# Altium schematic symbol library MotherBoard.SchLib: 19 symbols
Pins are listed as number, name and electrical type; pins without a type are passive.

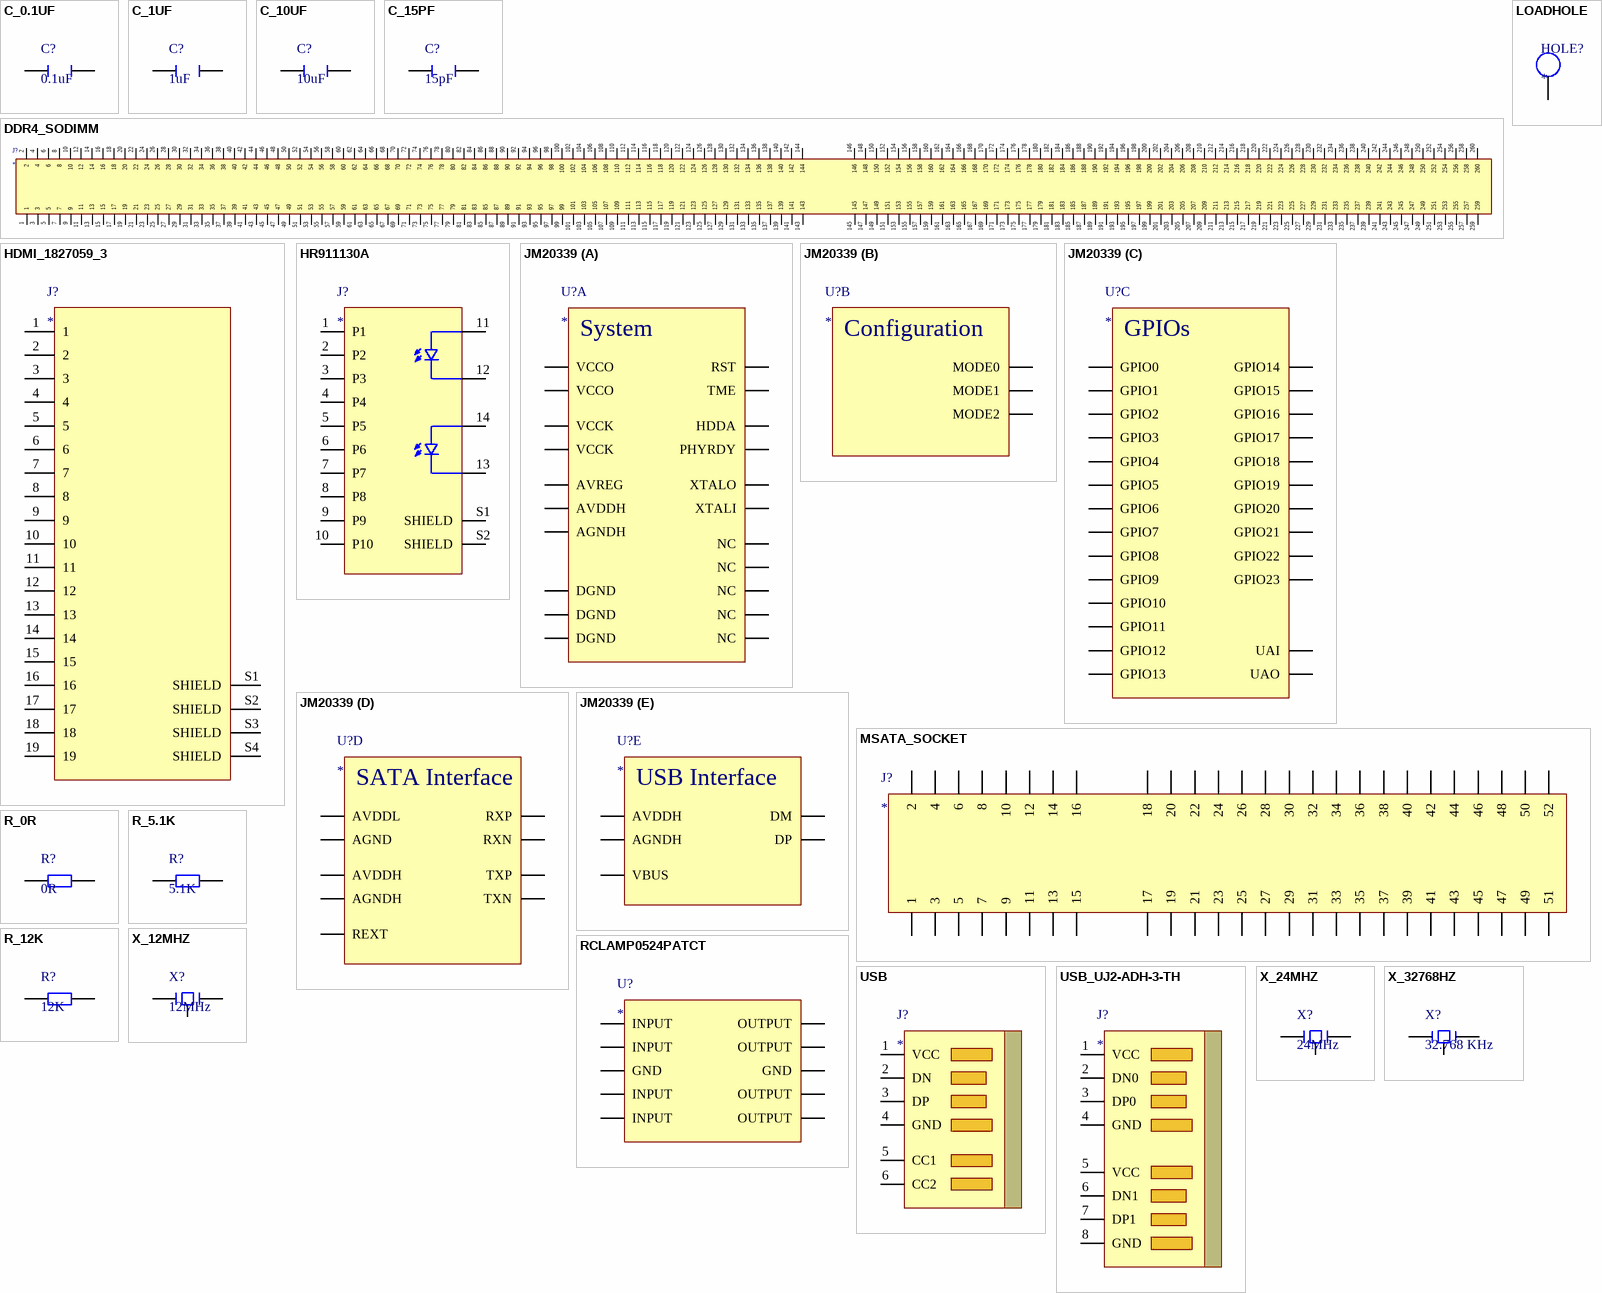
[diagram p0: symbols C_0.1UF to X_32768HZ]

## C_0.1UF
designator C?, comment 0.1uF
footprint C0402
footprint C0603
pins: 1 17, 2 18

## C_1UF
designator C?, comment 1uF
footprint C0402
footprint C0603
pins: 1 17, 2 18

## C_10UF
designator C?, comment 10uF
footprint C0402
footprint C0603
pins: 1 17, 2 18

## C_15PF
designator C?, comment 15pF
footprint C0402
footprint C0603
pins: 1 17, 2 18

## DDR4_SODIMM
designator J?
footprint DDR4_SODIMM
pins: 1, 2, 3, 4, 5, 6, 7, 8, 9, 10, 11, 12, 13, 14, 15, 16, 17, 18, 19, 20, 21, 22, 23, 24, 25, 26, 27, 28, 29, 30, 31, 32, 33, 34, 35, 36, 37, 38, 39, 40, 41, 42, 43, 44, 45, 46, 47, 48, 49, 50, 51, 52, 53, 54, 55, 56, 57, 58, 59, 60, 61, 62, 63, 64, 65, 66, 67, 68, 69, 70, 71, 72, 73, 74, 75, 76, 77, 78, 79, 80, 81, 82, 83, 84, 85, 86, 87, 88, 89, 90, 91, 92, 93, 94, 95, 96, 97, 98, 99, 100, 101, 102, 103, 104, 105, 106, 107, 108, 109, 110, 111, 112, 113, 114, 115, 116, 117, 118, 119, 120, 121, 122, 123, 124, 125, 126, 127, 128, 129, 130, 131, 132, 133, 134, 135, 136, 137, 138, 139, 140, 141, 142, 143, 144, 145, 146, 147, 148, 149, 150, 151, 152, 153, 154, 155, 156, 157, 158, 159, 160, 161, 162, 163, 164, 165, 166, 167, 168, 169, 170, 171, 172, 173, 174, 175, 176, 177, 178, 179, 180, 181, 182, 183, 184, 185, 186, 187, 188, 189, 190, 191, 192, 193, 194, 195, 196, 197, 198, 199, 200, 201, 202, 203, 204, 205, 206, 207, 208, 209, 210, 211, 212, 213, 214, 215, 216, 217, 218, 219, 220, 221, 222, 223, 224, 225, 226, 227, 228, 229, 230, 231, 232, 233, 234, 235, 236, 237, 238, 239, 240, 241, 242, 243, 244, 245, 246, 247, 248, 249, 250, 251, 252, 253, 254, 255, 256, 257, 258, 259, 260

## HDMI_1827059_3
designator J?
footprint HDMI_1827059_3 (EMBOSS PACKAGE HDMI CONN SMT NO-FLANGE T)
pins: 1, 2, 3, 4, 5, 6, 7, 8, 9, 10, 11, 12, 13, 14, 15, 16, 17, 18, 19, S1 SHIELD, S2 SHIELD, S3 SHIELD, S4 SHIELD

## HR911130A
designator J?
footprint HR911130A
pins: 1 P1, 2 P2, 3 P3, 4 P4, 5 P5, 6 P6, 7 P7, 8 P8, 9 P9, 10 P10, 11, 12, 13, 14, S1 SHIELD, S2 SHIELD
text: GREEN; YELLOW

## JM20339
designator U?
footprint JM20339
part A pins: 5 NC, 6 NC, 7 DGND, 8 VCCO, 9 NC, 10 NC, 12 RST, 14 AVREG, 15 AVDDH, 16 AGNDH, 17 XTALI, 18 XTALO, 23 NC, 37 TME, 38 PHYRDY, 39 HDDA, 41 DGND, 42 VCCK, 56 VCCO, 57 DGND, 58 VCCK
part B pins: 4 MODE2, 55 MODE1, 59 MODE0
part C pins: 1 GPIO21, 2 GPIO22, 3 GPIO23, 11 GPIO7, 33 GPIO3, 34 GPIO2, 35 GPIO1, 36 GPIO0, 40 GPIO4, 43 GPIO5, 44 GPIO6, 45 GPIO9, 46 GPIO10, 47 GPIO11, 48 GPIO12, 49 GPIO13, 50 GPIO14, 51 GPIO15, 52 GPIO8, 53 UAI, 54 UAO, 60 GPIO16, 61 GPIO17, 62 GPIO18, 63 GPIO19, 64 GPIO20
part D pins: 24 AVDDH, 25 AGNDH, 26 REXT, 27 RXP, 28 RXN, 29 AVDDL, 30 AGND, 31 TXN, 32 TXP
part E pins: 13 VBUS, 19 DM, 20 DP, 21 AVDDH, 22 AGNDH
part A text: System
part B text: Configuration
part C text: GPIOs
part D text: SATA Interface
part E text: USB Interface

## LOADHOLE
designator HOLE?
footprint LOADHOLE
pins: 1

## MSATA_SOCKET
designator J?
footprint MSATA_SOCKET
pins: 1, 2, 3, 4, 5, 6, 7, 8, 9, 10, 11, 12, 13, 14, 15, 16, 17, 18, 19, 20, 21, 22, 23, 24, 25, 26, 27, 28, 29, 30, 31, 32, 33, 34, 35, 36, 37, 38, 39, 40, 41, 42, 43, 44, 45, 46, 47, 48, 49, 50, 51, 52

## R_0R
designator R?, comment 0R
footprint R0402
footprint R0603
pins: 1 17, 2 18

## R_5.1K
designator R?, comment 5.1K
footprint R0402
footprint R0603
pins: 1 17, 2 18

## R_12K
designator R?, comment 12K
footprint R0402
footprint R0603
pins: 1 17, 2 18

## RCLAMP0524PATCT
designator U?
footprint RCLAMP0524PATCT
pins: 1 INPUT, 2 INPUT, 3 GND, 4 INPUT, 5 INPUT, 6 OUTPUT, 7 OUTPUT, 8 GND, 9 OUTPUT, 10 OUTPUT

## USB
designator J?
footprint USB-4105-GF-A
footprint USB-A-S-S-W-TH
pins: 1 VCC, 2 DN, 3 DP, 4 GND, 5 CC1, 6 CC2

## USB_UJ2-ADH-3-TH
designator J?
footprint UJ2-ADH-3-TH
pins: 1 VCC, 2 DN0, 3 DP0, 4 GND, 5 VCC, 6 DN1, 7 DP1, 8 GND

## X_12MHZ
designator X?, comment 12MHz
footprint SMD3225
pins: 1 IN, 2 OUT, 3 G

## X_24MHZ
designator X?, comment 24MHz
footprint SMD3225
pins: 1 IN, 2 OUT, 3 G

## X_32768HZ
designator X?, comment 32.768 KHz
footprint FC_135
pins: 1 IN, 2 OUT, 3 G